# Altium schematic symbol library Ground Support_Schlib.SchLib: 30 symbols
Pins are listed as number, name and electrical type; pins without a type are passive.

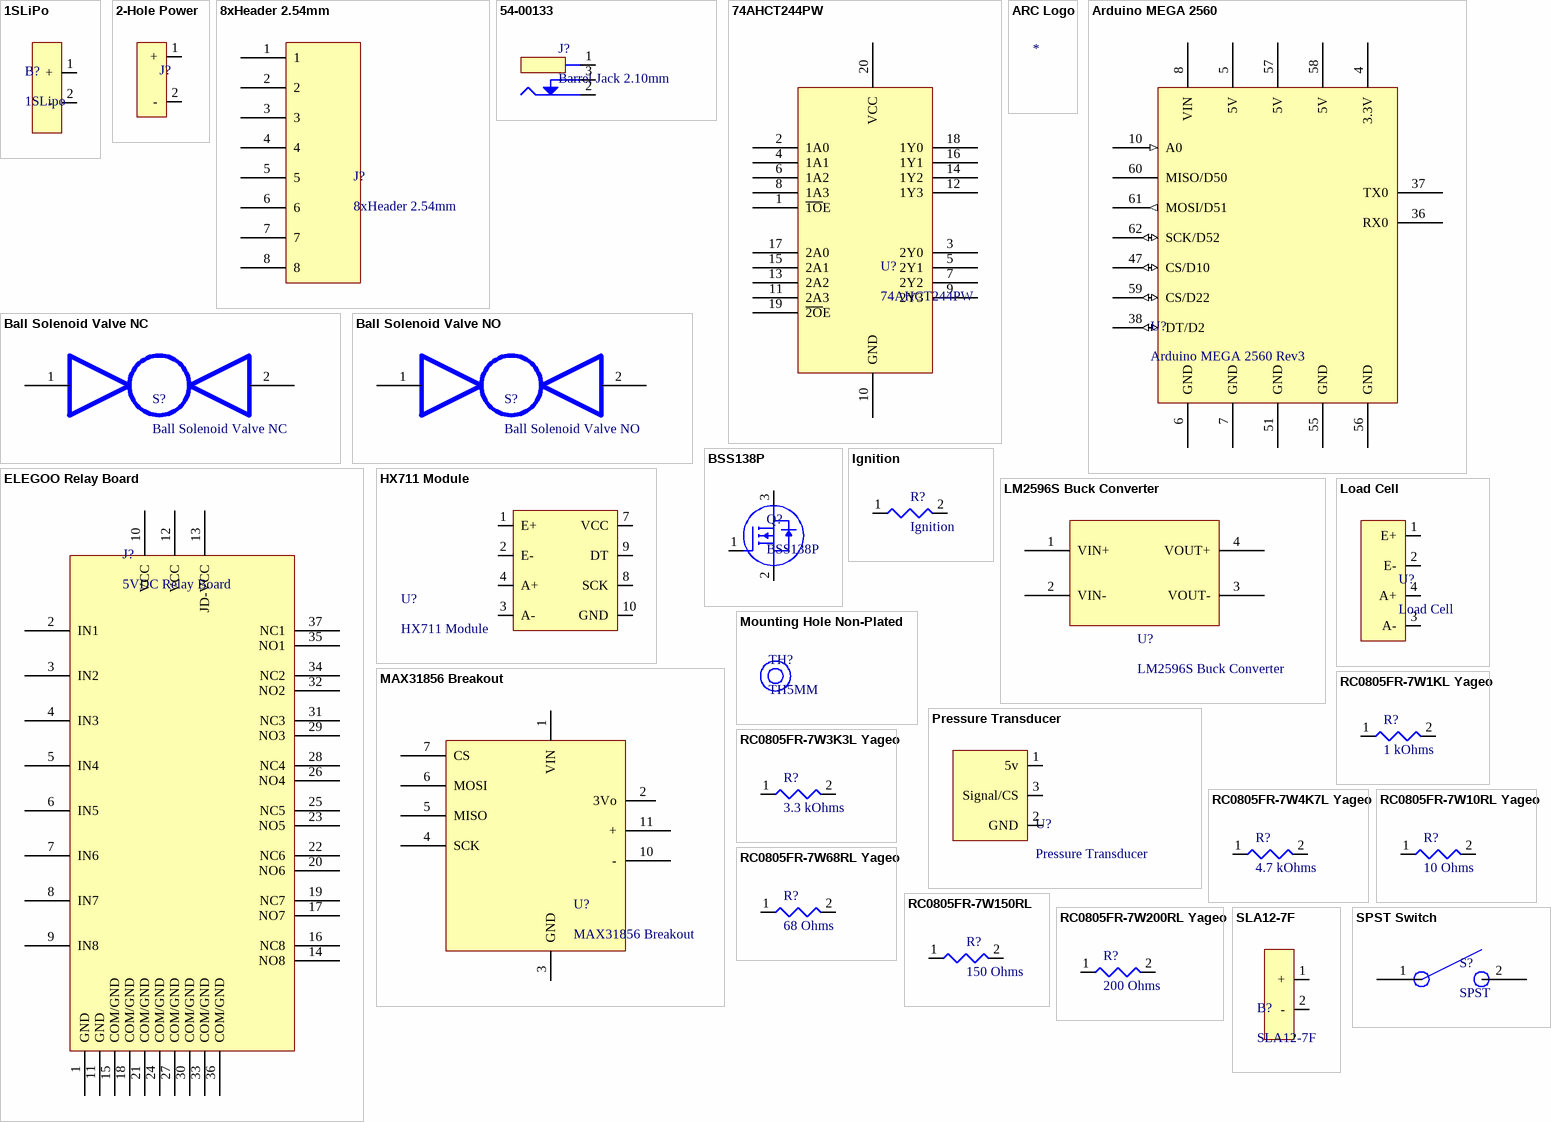
[diagram p0: symbols 1SLiPo to SPST Switch]

## 1SLiPo
designator B?, comment 1SLipo
footprint 1SLiPo
pins: 1 + (power), 2 - (power)

## 2-Hole Power
designator J?
footprint 2-PIN POWER 5VDC
pins: 1 + (power), 2 - (power)

## 8xHeader 2.54mm
designator J?
footprint 1x8HeaderPins
pins: 1, 2, 3, 4, 5, 6, 7, 8

## 54-00133
designator J?, comment Barrel Jack 2.10mm
Power Barrel Connector Jack 2.10mm ID (0.083"), 5.50mm OD (0.217") Through Hole, Right Angle; Manufacturer: Tensility; Manufacturer Part Number: 54-00133; Body Material: Copper Alloy; Gender: Male; Shielding: Unshielded; Voltage Rating: 48V; Current Rating: 6A; Supplier 1: Digi-Key; RoHS: No; Category: Connectors; Stock 1: 8232; Pricing 1: 1=1.05000, 10=0.89100, 25=0.85440, 50=0.83620, 100=0.79990, 250=0.72720, 500=0.65448, 1000=0.58176, 2500=0.52722 (USD); Mounting Technology: Through Hole; Contact Plating: Silver; Contact Material: Bronze,Brass; Insulation Color: Black; Housing Material: PBT; Min Operating Temperature: -25°C; Max Operating Temperature: 85°C; Connector Type: Jack; Packaging: Bulk; Termination: Solder; ComponentLink1URL: http://www.tensility.com/pdffiles/54-00133.pdf?src-supplier=Digi-Key; ComponentLink1Description: http://www.tensility.com/pdffiles/54-00133.pdf?src-supplier=Digi-Key; Supplier Part Number 1: 839-1516-ND
footprint 2.1mm Barrel Jack Connector
pins: 1 (power), 2 (power), 3 (power)

## 74AHCT244PW
designator U?
Octal Tri-State Buffer NON-INVERT 5.5V 20TSSOP; Manufacturer: NXP Semiconductors; Manufacturer Part Number: 74AHCT244PW,118; Number of Channels: 8; Operating Supply Voltage: 5V; Propagation Delay: 8.4ns; Min Supply Voltage: 4.5V; Logic Function: Buffer,Inverting; Number of Elements: 2; Number of Bits per Element: 4; High Level Output Current: -8mA; Low Level Output Current: 8mA; Polarity: Non-Inverting; Turn-On Delay Time: 14.5ns; Quiescent Current: 4uA; Output Type: 3-STATE; Supplier 1: Digi-Key; RoHS: Yes; Category: Uncategorized; Mounting Technology: Surface Mount; Case/Package: TSSOP; Pins: 20; Contact Plating: Gold; Min Operating Temperature: -40°C; Max Operating Temperature: 125°C; Number of Inputs: 8; Number of Outputs: 8; Packaging: Tape and Reel; Max Supply Voltage: 5.5V; Package Quantity: 2500; Number of Input Lines: 8; Number of Output Lines: 8; Series: 74AHCT; Technology: CMOS; Radiation Hardening: No; RoHS Compliant: Yes; Lead Free: Lead Free; ComponentLink1URL: https://datasheet.ciiva.com/1832/74ahc-ahct244-1832788.pdf?src-supplier=Digi-Key; ComponentLink1Description: https://datasheet.ciiva.com/1832/74ahc-ahct244-1832788.pdf?src-supplier=Digi-Key; ComponentLink2URL: https://datasheet.ciiva.com/1832/74ahc-ahct244-1832789.pdf?src-supplier=Digi-Key; ComponentLink2Description: https://datasheet.ciiva.com/1832/74ahc-ahct244-1832789.pdf?src-supplier=Digi-Key; ComponentLink3URL: https://datasheet.ciiva.com/1832/74ahc-ahct244-1832790.pdf?src-supplier=Digi-Key; ComponentLink3Description: https://datasheet.ciiva.com/1832/74ahc-ahct244-1832790.pdf?src-supplier=Digi-Key; ComponentLink4URL: https://datasheet.ciiva.com/1832/74ahc-ahct244-1832792.pdf?src-supplier=Digi-Key; ComponentLink4Description: https://datasheet.ciiva.com/1832/74ahc-ahct244-1832792.pdf?src-supplier=Digi-Key; Supplier Part Number 1: 1727-4002-2-ND
footprint 74AHCT244PW (TSOP, 20-Leads, Body 6.50x4.40mm, Pitch 0.65mm, IPC Medium Density)
pins: 1 ~{1O}E, 2 1A0, 3 2Y0, 4 1A1, 5 2Y1, 6 1A2, 7 2Y2, 8 1A3, 9 2Y3, 10 GND, 11 2A3, 12 1Y3, 13 2A2, 14 1Y2, 15 2A1, 16 1Y1, 17 2A0, 18 1Y0, 19 ~{2O}E, 20 VCC

## ARC Logo
designator *  (graphical)
ARC logo

## Arduino MEGA 2560
designator U?, comment Arduino MEGA 2560 Rev3
The Arduino Mega 2560 is a microcontroller board based on the ATmega2560. It has 54 digital input/output pins (of which 15 can be used as PWM outputs), 16 analog inputs, 4 UARTs (hardware serial ports), a 16 MHz crystal oscillator, a USB connection, a power jack, an ICSP header, and a reset button. It contains everything needed to support the microcontroller; simply connect it to a computer with a USB cable or power it with a AC-to-DC adapter or battery to get started. The Mega 2560 board is compatible with most shields designed for the Uno and the former boards Duemilanove or Diecimila. / The Mega 2560 is an update to the Arduino Mega, which it replaces.
pins: 4 3.3V (power), 5 5V (power), 6 GND (power), 7 GND (power), 8 VIN (power), 10 A0 (in), 36 RX0, 37 TX0, 38 DT/D2 (io), 47 CS/D10 (io), 51 GND (power), 55 GND (power), 56 GND (power), 57 5V (power), 58 5V (power), 59 CS/D22 (io), 60 MISO/D50, 61 MOSI/D51 (out), 62 SCK/D52 (io)

## Ball Solenoid Valve NC
designator S?
footprint Ball Solenoid Valve
pins: 1, 2

## Ball Solenoid Valve NO
designator S?
footprint Ball Solenoid Valve
pins: 1, 2

## BSS138P
designator Q?
N-Channel MOSFET BSS138P Series 60 V 1.6 Ohm 350 mW 0.72 nC SMT TrenchMOS FET - SOT-23; Manufacturer: Nexperia; Manufacturer Part Number: BSS138P,215; Supplier 1: Mouser; RoHS: Yes; Category: MOSFETs; Stock 1: 26596; Pricing 1: 1=0.27000, 10=0.22200, 50=0.22200, 100=0.11800, 500=0.07800, 1000=0.05300, 3000=0.04500, 10000=0.04500 (USD); RoHS Compliant: Yes; ComponentLink1URL: http://www.farnell.com/datasheets/923164.pdf?src-supplier=Farnell; ComponentLink1Description: http://www.farnell.com/datasheets/923164.pdf?src-supplier=Farnell; ComponentLink2URL: https://www.mouser.com/ds/2/302/BSS138P-114022.pdf?src-supplier=Mouser; ComponentLink2Description: https://www.mouser.com/ds/2/302/BSS138P-114022.pdf?src-supplier=Mouser; ComponentLink3URL: https://assets.nexperia.com/documents/data-sheet/BSS138P.pdf?src-supplier=Digi-Key; ComponentLink3Description: https://assets.nexperia.com/documents/data-sheet/BSS138P.pdf?src-supplier=Digi-Key; ComponentLink4URL: http://www.farnell.com/datasheets/923164.pdf?src-supplier=Newark; ComponentLink4Description: http://www.farnell.com/datasheets/923164.pdf?src-supplier=Newark; Supplier Part Number 1: 771-BSS138P215
footprint BSS138P (SOT23, 3-Leads, Body 2.90x2.30mm, Pitch 0.95mm, IPC Medium Density)
pins: 1 G, 2 S, 3 D

## ELEGOO Relay Board
designator J?, comment 5VDC Relay Board
footprint ELEGOO Relay Board
pins: 1 GND, 2 IN1, 3 IN2, 4 IN3, 5 IN4, 6 IN5, 7 IN6, 8 IN7, 9 IN8, 10 VCC, 11 GND, 12 VCC, 13 JD-VCC, 14 NO8, 15 COM/GND, 16 NC8, 17 NO7, 18 COM/GND, 19 NC7, 20 NO6, 21 COM/GND, 22 NC6, 23 NO5, 24 COM/GND, 25 NC5, 26 NO4, 27 COM/GND, 28 NC4, 29 NO3, 30 COM/GND, 31 NC3, 32 NO2, 33 COM/GND, 34 NC2, 35 NO1, 36 COM/GND, 37 NC1

## HX711 Module
designator U?
footprint HX711 Module
pins: 1 E+, 2 E-, 3 A-, 4 A+, 7 VCC (power), 8 SCK, 9 DT, 10 GND (power)

## Ignition
designator R?
Ignite rocket. Unknown resistance.
pins: 1, 2

## LM2596S Buck Converter
designator U?
Product parameters: input voltage is 4.0V - 40V, output voltage is 1.25V - 37V, output current is 2A (normal and stable) and 3A max, conversion efficiency 92% (highest), output ripple under 30mV, switching frequency 150KHz, operating temperature is -45 to 85 degree Celsius / Simple to operate: the voltmeter can be turned off, and the switch can be turned off by pressing and holding the switch for more than 1 second and less than 4 seconds, once the voltmeter is turned off, simply press the switch to turn on the voltmeter / Easy to use: with terminal block, no soldering iron is also convenient to use, and retain the wire bond point (the input voltage must be higher than the voltage to be output by 1v or more) / Output current: the maximum output current can be as high as 3A, the recommended working current is about 2A, more than 2A plus heat sink / Nice design: with 150KHz internal oscillation frequency, features low power consumption and high efficiency; When the output voltage cannot be adjusted and is always equal to the input voltage, please turn the potentiometer counterclockwise for more than 10 turns, and then use the module to adjust the voltage normally; This is because when the module leaves the factory, the default output voltage is about 20V; Manufacturer: Frienda; Manufacturer Part Number: Frienda-Power Converters-01; Input Voltage: 4.0-40.0V; Output Voltage: 1.25-37.0V; Supplier: Amazon; RoHS: Unavailable; Category: DC-DC Buck Conversion; Stock: 4; Pricing: 13.99; Output Current: 2A; Max Output Current: 3A; Frequency: 150kHz; Length: 7.05in; Width: 4.72in; Height: 0.83in; Operating Temperature: -40-+85 deg C; Supplier Part Number: B081N6WWJS
footprint LM2596S Buck Converter Board
pins: 1 VIN+, 2 VIN-, 3 VOUT-, 4 VOUT+

## Load Cell
designator U?
footprint LOAD CELL
pins: 1 E+, 2 E-, 3 A-, 4 A+

## MAX31856 Breakout
designator U?
Thermocouple amplifier works with any K, J, N, R, S, T, E, or B type thermocouple -210°C to +1800°C output in 0.0078125° resolution 3.3 to 5v power supply and logic level compliant SPI protocol
footprint MAX31856 Breakout
pins: 1 VIN, 2 3Vo, 3 GND, 4 SCK, 5 MISO, 6 MOSI, 7 CS, 10 -, 11 +

## Mounting Hole Non-Plated
designator TH?, comment TH5MM
Non-plated THT 5mm diameter
footprint Mounting Hole Non-Plated

## Pressure Transducer
designator U?
footprint 3-PIN AVIATION CONNECTOR
pins: 1 5v (power), 2 GND (power), 3 Signal/CS

## RC0805FR-7W1KL Yageo
designator R?, comment 1 kOhms
1 kOhms ±1% 0.25W, 1/4W Chip Resistor 0805 (2012 Metric) Moisture Resistant Thick Film; Manufacturer: Yageo; Manufacturer Part Number: RC0805FR-7W1KL; Value: 1kR; Supplier 1: Digi-Key; RoHS: Yes; Category: Chip SMD Resistors; Stock 1: 15000; Pricing 1: 5000=0.01838, 10000=0.01715, 25000=0.01629, 50000=0.01596, 125000=0.01562 (USD); Case/Package: 0805; Tolerance: 1%; RoHS Compliant: Yes; Supplier Part Number 1: 13-RC0805FR-7W1KLTR-ND
footprint RESC2012X06N (Chip Resistor, 2-Leads, Body 2.00x1.25mm, IPC Medium Density)
pins: 1, 2

## RC0805FR-7W3K3L Yageo
designator R?, comment 3.3 kOhms
3.3 kOhms ±1% 0.25W, 1/4W Chip Resistor 0805 (2012 Metric) Moisture Resistant Thick Film; Manufacturer: Yageo; Manufacturer Part Number: RC0805FR-7W3K3L; Supplier 1: Avnet; RoHS: Yes; Category: Chip SMD Resistors; Pricing 1: 5000=0.00430, 10000=0.00424, 20000=0.00411 (USD); Supplier Part Number 1: RC0805FR-7W3K3L
footprint RESC2012X06N (Chip Resistor, 2-Leads, Body 2.00x1.25mm, IPC Medium Density)
pins: 1, 2

## RC0805FR-7W4K7L Yageo
designator R?, comment 4.7 kOhms
4.7 kOhms ±1% 0.25W, 1/4W Chip Resistor 0805 (2012 Metric) Moisture Resistant Thick Film; Manufacturer: Yageo; Manufacturer Part Number: RC0805FR-7W4K7L; Supplier 1: Digi-Key; RoHS: Yes; Category: Chip SMD Resistors; Pricing 1: 5000=0.01838 (USD); RoHS Compliant: Yes; Supplier Part Number 1: 13-RC0805FR-7W4K7L-ND
footprint RESC2012X06N (Chip Resistor, 2-Leads, Body 2.00x1.25mm, IPC Medium Density)
pins: 1, 2

## RC0805FR-7W10RL Yageo
designator R?, comment 10 Ohms
10 Ohms ±1% 0.25W, 1/4W Chip Resistor 0805 (2012 Metric) Moisture Resistant Thick Film; Manufacturer: Yageo; Manufacturer Part Number: RC0805FR-7W10RL; Value: 10R; Power Rating: 250mW; Voltage Rating: 150V; Temperature Coefficient: 200ppm/°C; Supplier 1: Digi-Key; RoHS: Yes; Category: Chip SMD Resistors; Stock 1: 10000; Pricing 1: 5000=0.01288, 10000=0.01155, 25000=0.01060, 50000=0.00996, 125000=0.00973 (USD); Case/Package: 0805; Case Code (Metric): 2012; Case Code (Imperial): 0805; Min Operating Temperature: -55°C; Max Operating Temperature: 155°C; Tolerance: 1%; Packaging: Cut Tape; Resistor Type: Thick Film; Voltage Rating (DC): 150V; Resistance Tolerance: 1%; Construction: Rectangular; Length: 2mm; Depth: 1.25mm; Military Standard: Not; RoHS Compliant: Yes; ComponentLink1URL: https://datasheet.ciiva.com/7941/1675737-7941854.pdf?src-supplier=Element14; ComponentLink1Description: https://datasheet.ciiva.com/7941/1675737-7941854.pdf?src-supplier=Element14; ComponentLink2URL: https://datasheet.ciiva.com/22704/1675737-22704071.pdf?src-supplier=Element14; ComponentLink2Description: https://datasheet.ciiva.com/22704/1675737-22704071.pdf?src-supplier=Element14; Supplier Part Number 1: 13-RC0805FR-7W10RLTR-ND
footprint RESC2012X06N (Chip Resistor, 2-Leads, Body 2.00x1.25mm, IPC Medium Density)
pins: 1, 2

## RC0805FR-7W68RL Yageo
designator R?, comment 68 Ohms
68 Ohms ±1% 0.25W, 1/4W Chip Resistor 0805 (2012 Metric) Moisture Resistant Thick Film; Manufacturer: Yageo; Manufacturer Part Number: RC0805FR-7W68RL; Value: 68R; Power Rating: 125mW; Voltage Rating: 150V; Temperature Coefficient: 100ppm/°C; Supplier 1: Digi-Key; RoHS: Yes; Category: Chip SMD Resistors; Pricing 1: 5000=0.01838 (USD); Case/Package: 0805; Pins: 2; Case Code (Metric): 2012; Case Code (Imperial): 0805; Tolerance: 1%; Packaging: Cut Tape; Resistor Type: Thick Film; Voltage Rating (DC): 150V; Resistance Tolerance: 1%; Series: RC0805; Reach SVHC Compliant: Yes; RoHS Compliant: Yes; ComponentLink1URL: https://datasheet.ciiva.com/22683/1675737-22683965.pdf?src-supplier=Element14; ComponentLink1Description: https://datasheet.ciiva.com/22683/1675737-22683965.pdf?src-supplier=Element14; Supplier Part Number 1: 13-RC0805FR-7W68RL-ND
footprint RESC2012X06N (Chip Resistor, 2-Leads, Body 2.00x1.25mm, IPC Medium Density)
pins: 1, 2

## RC0805FR-7W150RL
designator R?, comment 150 Ohms
150 Ohms ±1% 0.25W, 1/4W Chip Resistor 0805 (2012 Metric) Moisture Resistant Thick Film; Manufacturer: Yageo; Manufacturer Part Number: RC0805FR-7W150RL; Supplier: Mouser; Supplier Part Number: 603-RC0805FR-7W150RL; RoHS: Yes; Category: Chip SMD Resistors; Pricing: 1=0.19000, 10=0.16200, 50=0.16200, 100=0.06400, 1000=0.03100, 10000=0.02600 (USD); RoHS Compliant: Yes
footprint RESC2012X06N (Chip Resistor, 2-Leads, Body 2.00x1.25mm, IPC Medium Density)
pins: 1, 2

## RC0805FR-7W200RL Yageo
designator R?, comment 200 Ohms
200 Ohms ±1% 0.25W, 1/4W Chip Resistor 0805 (2012 Metric) Moisture Resistant Thick Film; Manufacturer: Yageo; Manufacturer Part Number: RC0805FR-7W200RL; Supplier 1: Digi-Key; RoHS: No; Category: Resistors; Pricing 1: 5000=0.01838 (USD); Supplier Part Number 1: 13-RC0805FR-7W200RL-ND
footprint RESC2012X06N (Chip Resistor, 2-Leads, Body 2.00x1.25mm, IPC Medium Density)
pins: 1, 2

## SLA12-7F
designator B?  (mechanical)
AJC Brand Replacement for a Duracell Ultra SLA12-7F 12V 7Ah Sealed Lead Acid Battery / Voltage: 12V (12 Volts) / Capacity: 7Ah / Terminals: F1 5.94 x 2.56 x 3.7 inches; Manufacturer Part Number: AJC-D7S; Supplier: Amazon; Manufacturer: AJC; RoHS: Unavailable; Category: Battery; Stock: 1; Pricing: 26.99; Votlage Rating: 12V; Energy Rating: 7Ah; Length: 5.94in; Width: 2.56in; Height: 3.7; Supplier Part Number: B0BL1MQMK3
pins: 1 + (power), 2 - (power)

## SPST Switch
designator S?, comment SPST
SPST Switch
footprint SPST Switch
pins: 1 +, 2 -

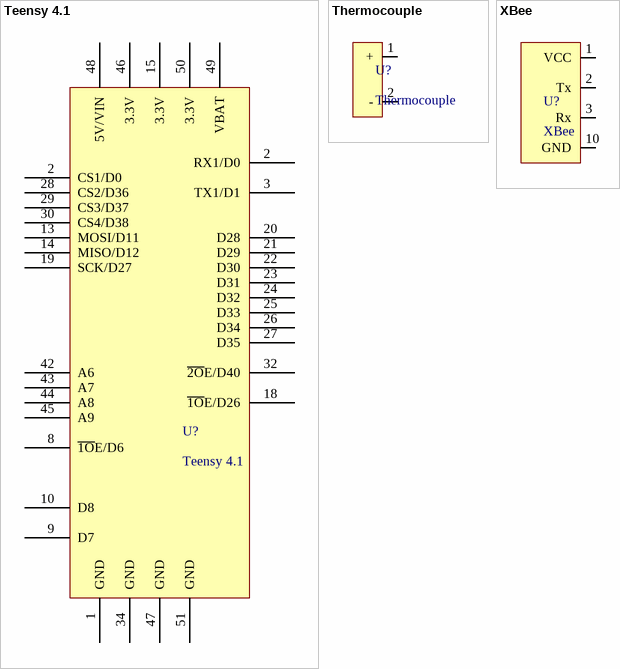
[diagram p1: symbols Teensy 4.1 to XBee]

## Teensy 4.1
designator U?
RT1062 Teensy 4.1 - ARM® Cortex®-M7 MCU 32-Bit Embedded Evaluation Board 600 MHz 100 mA RTC Built-in microSD Card reader Arduino IDE compatible; Manufacturer: SparkFun; Manufacturer Part Number: DEV-16996; Supplier 1: Digi-Key; RoHS: No; Category: Embedded Processors and Controllers; Stock 1: 300; Pricing 1: 1=31.88000 (USD); Supplier Part Number 1: 1568-DEV-16996-ND
footprint Teensy 4.1
pins: 1 GND, 2 CS1/D0, 2 RX1/D0, 3 TX1/D1, 8 ~{1O}E/D6, 9 D7, 10 D8, 13 MOSI/D11, 14 MISO/D12, 15 3.3V, 18 ~{1O}E/D26, 19 SCK/D27, 20 D28, 21 D29, 22 D30, 23 D31, 24 D32, 25 D33, 26 D34, 27 D35, 28 CS2/D36, 29 CS3/D37, 30 CS4/D38, 32 ~{2O}E/D40, 34 GND, 42 A6, 43 A7, 44 A8, 45 A9, 46 3.3V, 47 GND, 48 5V/VIN, 49 VBAT, 50 3.3V, 51 GND

## Thermocouple
designator U?
footprint THERMOCOUPLE
pins: 1 + (power), 2 - (power)

## XBee
designator U?
pins: 1 VCC (power), 2 Tx, 3 Rx, 10 GND (power)